# Altium footprint library HanRun.PcbLib: 4 footprints
Each footprint in its own frame and in the unit in brackets; x right, y up, seen from the top. Pads: shape width x height; smd on the part's side, far side on the other; paste and mask are expansions set on the pad; w line width, h text height; cw(c..) or ccw(c..) is an arc to the next point about the centre after c.
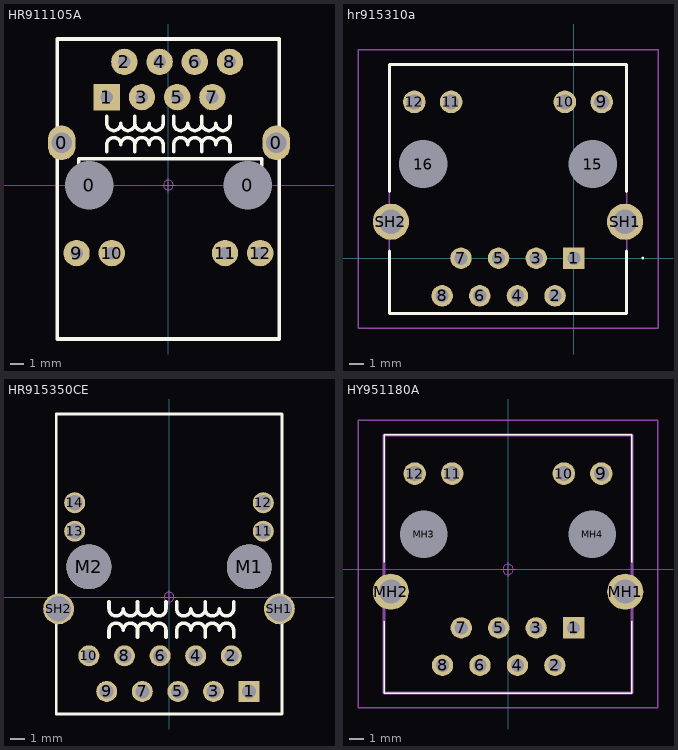
[diagram p0: the footprints below, top view; thin cyan lines are the x and y axes]

## HR911105A [mm] "网线接口"
pads (16):
  oval 2x2.5 hole 1.5: 0(-7.695,3.05) 0(7.785,3.05)
  round 3.302 hole 3.5: 0(-5.715,0) 0(5.715,0)
  rect 1.905x1.905 hole 0.9: 1(-4.445,6.35)
  round 1.905 hole 0.9: 2(-3.175,8.89) 3(-1.905,6.35) 4(-0.635,8.89) 5(0.635,6.35) 6(1.905,8.89) 7(3.175,6.35) 8(4.445,8.89) 9(-6.625,-4.9) 10(-4.085,-4.9) 11(4.085,-4.9) 12(6.625,-4.9)
Top Overlay:
  lines w0.254: -6.477,1.397 -6.477,1.905 6.731,1.905 6.731,1.397 ; -4.445,2.413 -4.445,2.921 cw(c-3.937,2.921) -3.429,2.921 cw(c-2.921,2.921) -2.413,2.921 ; -4.445,4.953 -4.445,4.445 ccw(c-3.937,4.445) -3.429,4.445 ccw(c-2.921,4.445) -2.413,4.445 ; -2.413,2.413 -2.413,2.921 ; -2.413,4.953 -2.413,4.445 ; -0.381,2.413 -0.381,2.921 ccw(c-0.889,2.921) -1.397,2.921 ccw(c-1.905,2.921) -2.413,2.921 ; -0.381,4.953 -0.381,4.445 cw(c-0.889,4.445) -1.397,4.445 cw(c-1.905,4.445) -2.413,4.445 ; 0.381,2.413 0.381,2.921 cw(c0.889,2.921) 1.397,2.921 cw(c1.905,2.921) 2.413,2.921 ; 0.381,4.953 0.381,4.445 ccw(c0.889,4.445) 1.397,4.445 ccw(c1.905,4.445) 2.413,4.445 ; 2.413,2.413 2.413,2.921 ; 2.413,4.953 2.413,4.445 ; 4.445,2.413 4.445,2.921 ccw(c3.937,2.921) 3.429,2.921 ccw(c2.921,2.921) 2.413,2.921 ; 4.445,4.953 4.445,4.445 cw(c3.937,4.445) 3.429,4.445 cw(c2.921,4.445) 2.413,4.445 ; -8.001,-11.1 8.001,-11.1 8.001,10.541 -8.001,10.541 -8.001,-11.1
Mechanical 15:
  circle w0.05: c0,0 r0.35
  lines w0.05: -0.5,0 0.5,0 ; 0,-0.5 0,0.5
3D body "HR911105A.STEP": height 13.5, standoff -3, extent -7.94,-10.897 7.94,10.503

## hr915310a [mm]
pads (16):
  rect 1.446x1.446 hole 0.89: 1(0,0)
  round 1.446 hole 0.89: 2(-1.27,-2.54) 3(-2.54,0) 4(-3.81,-2.54) 5(-5.08,0) 6(-6.35,-2.54) 7(-7.62,0) 8(-8.89,-2.54)
  round 1.53 hole 1.02: 9(1.88,10.55) 10(-0.61,10.55) 11(-8.28,10.55) 12(-10.77,10.55)
  round 1.625 hole 3.25 unplated: 15(1.27,6.35) 16(-10.16,6.35)
  round 2.445 hole 1.63: SH1(3.455,2.46) SH2(-12.345,2.46)
Top Overlay:
  lines w0.1: 4.6,0 cw(c4.65,0) 4.7,0 cw(c4.65,0) 4.6,0
  lines w0.2: -12.445,0.5 -12.445,-3.74 3.555,-3.74 3.555,0.5 ; -12.445,4.5 -12.445,13.08 3.555,13.08 3.555,4.5
Mechanical 13:
  lines w0.1: -12.445,-3.74 -12.445,13.08 3.555,13.08 3.555,-3.74 -12.445,-3.74
Mechanical 15:
  lines w0.1: -14.568,-4.74 -14.568,14.08 5.678,14.08 5.678,-4.74 -14.568,-4.74
3D body "HR915310A.STEP": height 17, standoff -3.5, extent -12.545,-3.74 3.655,13.06

## HR915350CE [mm]
pads (18):
  rect 1.5x1.5 hole 1: 1(5.715,-6.73)
  round 1.5 hole 1: 2(4.445,-4.19) 3(3.175,-6.73) 4(1.905,-4.19) 5(0.635,-6.73) 6(-0.635,-4.19) 7(-1.905,-6.73) 8(-3.175,-4.19) 9(-4.445,-6.73) 10(-5.715,-4.19)
  round 1.5 hole 1.1: 11(6.725,4.7) 12(6.725,6.73) 13(-6.725,4.7) 14(-6.725,6.73)
  round 3.2 hole 3.2 unplated paste+0 mask+0: M1(5.72,2.16) M2(-5.71,2.16)
  round 2.2 hole 1.8: SH1(7.875,-0.84) SH2(-7.875,-0.84)
Top Overlay:
  lines w0.2: -8.045,-8.34 -8.045,13.06 8.055,13.06 8.055,-8.34 -8.045,-8.34
  lines w0.254: -4.28,-2.872 -4.28,-2.364 cw(c-3.772,-2.364) -3.264,-2.364 cw(c-2.756,-2.364) -2.248,-2.364 ; -4.28,-0.332 -4.28,-0.84 ccw(c-3.772,-0.84) -3.264,-0.84 ccw(c-2.756,-0.84) -2.248,-0.84 ; -2.248,-2.872 -2.248,-2.364 ; -2.248,-0.332 -2.248,-0.84 ; -0.216,-2.872 -0.216,-2.364 ccw(c-0.724,-2.364) -1.232,-2.364 ccw(c-1.74,-2.364) -2.248,-2.364 ; -0.216,-0.332 -0.216,-0.84 cw(c-0.724,-0.84) -1.232,-0.84 cw(c-1.74,-0.84) -2.248,-0.84 ; 0.546,-2.872 0.546,-2.364 cw(c1.054,-2.364) 1.562,-2.364 cw(c2.07,-2.364) 2.578,-2.364 ; 0.546,-0.332 0.546,-0.84 ccw(c1.054,-0.84) 1.562,-0.84 ccw(c2.07,-0.84) 2.578,-0.84 ; 2.578,-2.872 2.578,-2.364 ; 2.578,-0.332 2.578,-0.84 ; 4.61,-2.872 4.61,-2.364 ccw(c4.102,-2.364) 3.594,-2.364 ccw(c3.086,-2.364) 2.578,-2.364 ; 4.61,-0.332 4.61,-0.84 cw(c4.102,-0.84) 3.594,-0.84 cw(c3.086,-0.84) 2.578,-0.84
Mechanical 15:
  circle w0.05: c0,0 r0.35
  lines w0.05: -0.5,0 0.5,0 ; 0,-0.5 0,0.5
3D body "HR915350CE.stp": height 14.75, standoff -3.55, extent -9.195,-8.617 9.205,12.933

## HY951180A [mm]
pads (16):
  rect 1.446x1.446 hole 0.89: 1(4.45,-3.96)
  round 1.446 hole 0.89: 2(3.18,-6.5) 3(1.91,-3.96) 4(0.64,-6.5) 5(-0.63,-3.96) 6(-1.9,-6.5) 7(-3.17,-3.96) 8(-4.44,-6.5)
  round 1.53 hole 1.02: 9(6.325,6.5) 10(3.785,6.5) 11(-3.785,6.5) 12(-6.325,6.5)
  round 2.445 hole 1.63: MH1(7.95,-1.51) MH2(-7.95,-1.51)
  round 1.6 hole 3.2 unplated: MH3(-5.715,2.39) MH4(5.715,2.39)
Top Overlay:
  lines w0.1: -8.4,-8.38 8.39,-8.38 -8.4,-8.38 ; -8.4,-8.38 -8.4,-3.5 -8.4,-8.38 ; -8.4,9.12 -8.4,0.5 -8.4,9.12 ; -8.4,9.12 8.4,9.12 ; -8.4,9.12 8.4,9.12 ; 8.4,9.12 8.39,9.12 8.39,0.5 8.4,0.5 8.4,9.12 ; 8.4,-8.38 8.4,-3.5 8.4,-8.38
Mechanical 13:
  lines w0.2: -8.4,-8.38 -8.4,9.12 8.4,9.12 8.4,-8.38 -8.4,-8.38
Mechanical 15:
  circle w0.05: c0,0 r0.35
  lines w0.05: -0.5,0 0.5,0 ; 0,-0.5 0,0.5
  lines w0.1: -10.173,-9.38 -10.173,10.12 10.172,10.12 10.172,-9.38 -10.173,-9.38
3D body "HY951180A.stp": height 17.57, standoff -3.43, extent -8.4,-8.38 8.4,9.12